# EAGLE library part CCS811_BREAKOUT_TEMP_CCS811 (library SparkFun_CSS811_Breakout)
AMS CCS811 – I2C Digital Gas Sensor Ultra-Low Power Digital Gas Sensor for Monitoring Indoor Air Quality AMS Product Page <http://ams.com/eng/Products/Environmental-Sensors/Gas-Sensors/CCS811> SparkFun Products:
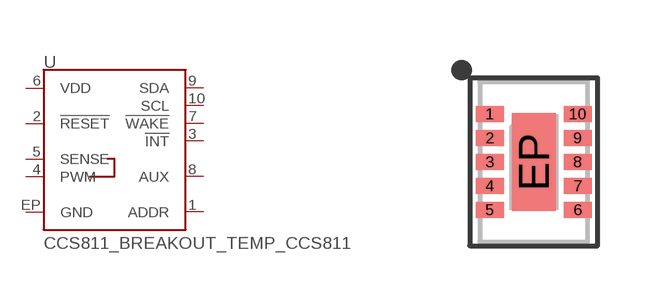
[diagram p0: symbol with the pads of CCS811_BREAKOUT_TEMP_LGA10; footprint CCS811_BREAKOUT_TEMP_LGA10]

Designator prefix U

## CCS811_BREAKOUT_TEMP_CCS811 (PROD_ID: IC-13607; VALUE: CCS811)  [CCS811_BREAKOUT_TEMP_LGA10]
1  ADDR
2  !RESET!
3  !INT!
4  PWM
5  SENSE
6  VDD
7  !WAKE!
8  AUX
9  SDA
10  SCL
EP  GND

## Footprint CCS811_BREAKOUT_TEMP_LGA10 (pad centres in mm)
smd 0.7 x 0.4: 1 -1.1,1.2; 2 -1.1,0.6; 3 -1.1,0; 4 -1.1,-0.6; 5 -1.1,-1.2; 6 1.1,-1.2; 7 1.1,-0.6; 8 1.1,0; 9 1.1,0.6; 10 1.1,1.2
smd 1.1 x 2.45: EP 0,0